# Altium integrated library AD9613BCPZ-210.IntLib: 1 symbol
Pins are listed as number, name and electrical type; pins without a type are passive.

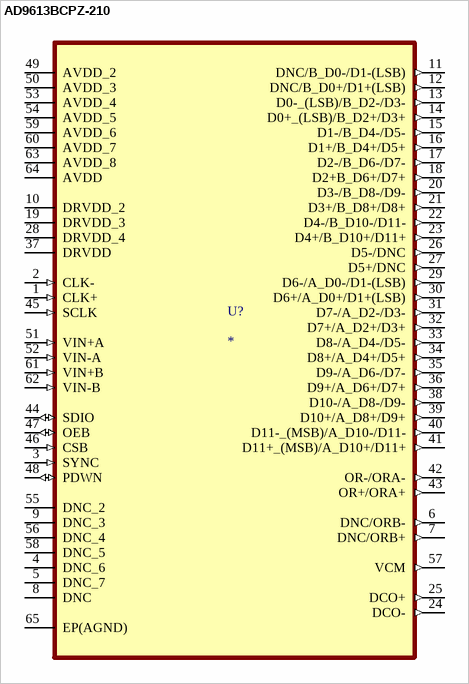
[diagram p0: symbol AD9613BCPZ-210]

## AD9613BCPZ-210
designator U?
Dual Channel Dual ADC Pipelined 210Msps 12-bit Parallel/LVDS 64-Pin LFCSP EP Tray; MF: Analog Devices; MP: AD9613BCPZ-210; Check_prices: https://www.snapeda.com/parts/AD9613BCPZ-210/Analog%20Devices/view-part/4329917/?ref=eda; SnapEDA_Link: https://www.snapeda.com/parts/AD9613BCPZ-210/Analog%20Devices/view-part/4329917/?ref=snap; Availability: In Stock; Price: None; Value: *; Package: LFCSP -64 Analog Devices; Purchase-URL: https://pricing.snapeda.com/search/part/AD9613BCPZ-210/?ref=eda
footprint QFN50P900X900X100-65N
pins: 1 CLK+ (in), 2 CLK- (in), 3 SYNC (in), 4 DNC_6, 5 DNC_7, 6 DNC/ORB- (out), 7 DNC/ORB+ (out), 8 DNC, 9 DNC_3, 10 DRVDD_2 (power), 11 DNC/B_D0-/D1-(LSB) (out), 12 DNC/B_D0+/D1+(LSB) (out), 13 D0-_(LSB)/B_D2-/D3- (out), 14 D0+_(LSB)/B_D2+/D3+ (out), 15 D1-/B_D4-/D5- (out), 16 D1+/B_D4+/D5+ (out), 17 D2-/B_D6-/D7- (out), 18 D2+B_D6+/D7+ (out), 19 DRVDD_3 (power), 20 D3-/B_D8-/D9- (out), 21 D3+/B_D8+/D8+ (out), 22 D4-/B_D10-/D11- (out), 23 D4+/B_D10+/D11+ (out), 24 DCO- (out), 25 DCO+ (out), 26 D5-/DNC (out), 27 D5+/DNC (out), 28 DRVDD_4 (power), 29 D6-/A_D0-/D1-(LSB) (out), 30 D6+/A_D0+/D1+(LSB) (out), 31 D7-/A_D2-/D3- (out), 32 D7+/A_D2+/D3+ (out), 33 D8-/A_D4-/D5- (out), 34 D8+/A_D4+/D5+ (out), 35 D9-/A_D6-/D7- (out), 36 D9+/A_D6+/D7+ (out), 37 DRVDD (power), 38 D10-/A_D8-/D9- (out), 39 D10+/A_D8+/D9+ (out), 40 D11-_(MSB)/A_D10-/D11- (out), 41 D11+_(MSB)/A_D10+/D11+ (out), 42 OR-/ORA- (out), 43 OR+/ORA+ (out), 44 SDIO (io), 45 SCLK (in), 46 CSB (in), 47 OEB (io), 48 PDWN (io), 49 AVDD_2 (power), 50 AVDD_3 (power), 51 VIN+A (in), 52 VIN-A (in), 53 AVDD_4 (power), 54 AVDD_5 (power), 55 DNC_2, 56 DNC_4, 57 VCM (out), 58 DNC_5, 59 AVDD_6 (power), 60 AVDD_7 (power), 61 VIN+B (in), 62 VIN-B (in), 63 AVDD_8 (power), 64 AVDD (power), 65 EP(AGND)